# Altium footprint library JS7628_base_board_v1.5.1.PcbLib: 34 footprints (part 3 of 3)
Each footprint in its own frame and in the unit in brackets; x right, y up, seen from the top. Pads: shape width x height; smd on the part's side, far side on the other; paste and mask are expansions set on the pad; w line width, h text height; cw(c..) or ccw(c..) is an arc to the next point about the centre after c.
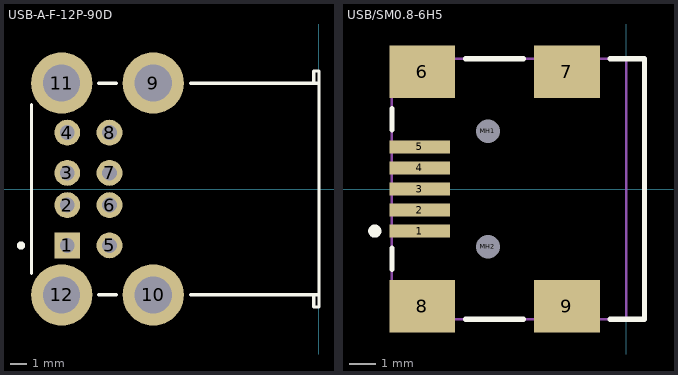
[diagram p2: the footprints below, top view; thin cyan lines are the x and y axes]

## USB-A-F-12P-90D [mm]
pads (12):
  rect 1.6x1.6 hole 0.92: 1(-15.61,-3.5)
  round 1.6 hole 0.92: 2(-15.61,-1) 3(-15.61,1) 4(-15.61,3.5) 5(-12.99,-3.5) 6(-12.99,-1) 7(-12.99,1) 8(-12.99,3.5)
  round 3.8 hole 2.3: 9(-10.28,6.57) 10(-10.28,-6.57) 11(-15.96,6.57) 12(-15.96,-6.57)
Top Overlay:
  circle w0.25: c-18.48,-3.5 r0.125
  lines w0.2: -17.83,-5.23 -17.83,5.23 ; -13.66,-6.565 -12.58,-6.565 ; -13.66,6.565 -12.58,6.565 ; -7.97,-6.565 0,-6.565 ; -7.97,6.565 0,6.565 ; -0.32,-6.565 -0.32,-7.315 0,-7.315 0,-6.565 ; -0.32,6.565 -0.32,7.315 0,7.315 0,6.565 ; 0,-6.565 0,6.565
3D body: height 16.3, standoff 0, extent -17.8,-6.6 0,6.5

## USB/SM0.8-6H5 [mm]
pads (11):
  rect 2.3x0.5 smd: 1(-7.85,-1.6) 2(-7.85,-0.8) 3(-7.85,0) 4(-7.85,0.8) 5(-7.85,1.6)
  rect 2.5x2 smd: 6(-7.75,4.45) 7(-2.25,4.45) 8(-7.75,-4.45) 9(-2.25,-4.45)
  round 0.6 hole 0.9 unplated: MH1(-5.25,2.2) MH2(-5.25,-2.2)
Top Overlay:
  circle w0.25: c-9.55,-1.6 r0.125
  lines w0.2: -8.9,-3.05 -8.9,-2.25 ; -8.9,2.25 -8.9,3.05 ; -6.1,-4.95 -3.9,-4.95 ; -6.1,4.95 -3.9,4.95 ; -0.6,-4.95 0.7,-4.95 0.7,4.95 -0.6,4.95
Mechanical 1:
  lines w0.1: 0,-4.95 0,4.95
  text "PCB Edge" at 0.432,-4.036 h0.75
Mechanical 13:
  lines w0.1: -8.9,-4.95 0.7,-4.95 0.7,4.95 -8.9,4.95 -8.9,-4.95
3D body: height 3.9, standoff 0, extent -8.9,-4.95 0.7,4.95